# Altium footprint library Terminal_2way_508.PcbLib: 1 footprints
Each footprint in its own frame and in the unit in brackets; x right, y up, seen from the top. Pads: shape width x height; smd on the part's side, far side on the other; paste and mask are expansions set on the pad; w line width, h text height; cw(c..) or ccw(c..) is an arc to the next point about the centre after c.
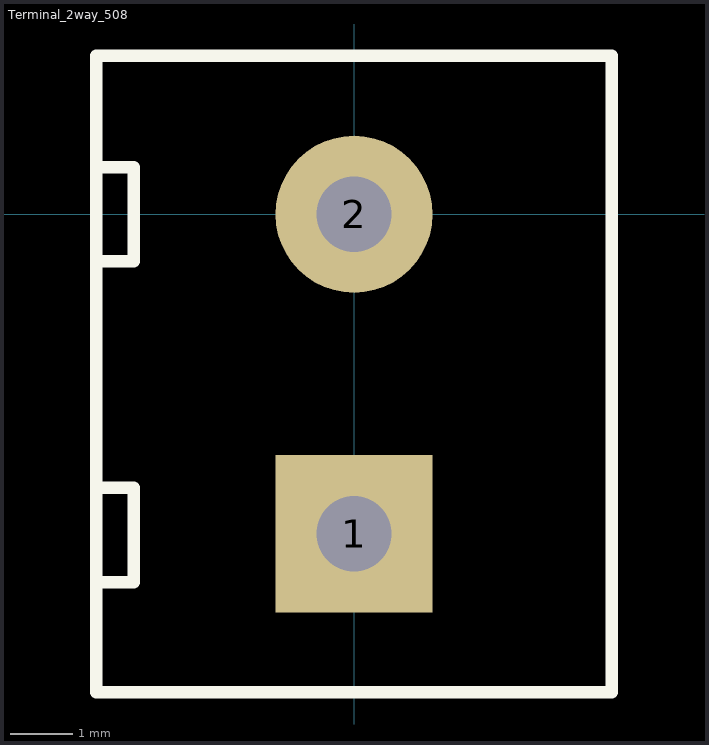
[diagram p0: the footprint, top view; thin cyan lines are the x and y axes]

## Terminal_2way_508 [mm] "TERMINAL BLOCK, SCREW TYPE, 5.08, 2WAY"
height 10
pads (2):
  rect 2.5x2.5 hole 1.2: 1(0,-5.08)
  round 2.5 hole 1.2: 2(0,0)
Top Overlay:
  lines w0.2: -4.1,-5.85 -3.5,-5.85 -3.5,-4.35 -4.1,-4.35 ; -4.1,-0.75 -3.5,-0.75 -3.5,0.75 -4.1,0.75 ; -4.1,-7.6 -4.1,2.52 4.1,2.52 4.1,-7.6 -4.1,-7.6
3D body: height 15, standoff -3.5, extent -4.7,-8.17 4.8,2.56